# Altium footprint library Connectors - Modular.PcbLib: 2 footprints
Each footprint in its own frame and in the unit in brackets; x right, y up, seen from the top. Pads: shape width x height; smd on the part's side, far side on the other; paste and mask are expansions set on the pad; w line width, h text height; cw(c..) or ccw(c..) is an arc to the next point about the centre after c.
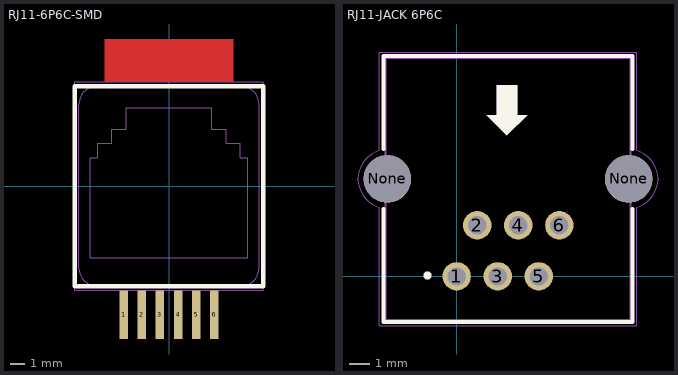
[diagram p0: the footprints below, top view; thin cyan lines are the x and y axes]

## RJ11-6P6C-SMD [mm]
height 12.8
pads (6):
  rrect10% 0.6x3.4 smd mask+0.07: 1(-3.175,-9) 2(-1.905,-9) 3(-0.635,-9) 4(0.635,-9) 5(1.905,-9) 6(3.175,-9)
Top Layer:
  region: -4.5,10.3 -4.5,7.3 4.5,7.3 4.5,10.3
Top Overlay:
  lines w0.3: -6.6,-7 6.6,-7 6.6,7 -6.6,7 -6.6,-7
Top HCB:
  lines w0.05: -6.6,-7.3 6.6,-7.3 6.6,7.3 -6.6,7.3 -6.6,-7.3 ; -6.3,-5.73 ccw(c-5.03,-5.73) -5.03,-7 5.03,-7 ccw(c5.03,-5.73) 6.3,-5.73 6.3,5.73 ccw(c5.03,5.73) 5.03,7 -5.03,7 ccw(c-5.03,5.73) -6.3,5.73 -6.3,0 -6.3,-5.73 ; -5.5,-5 -5.5,2 -5,2 -5,3 -4,3 -4,4 -3,4 -3,5.5 3,5.5 3,4 4,4 4,3 5,3 5,2 5.5,2 5.5,-5 -5.5,-5

## RJ11-JACK 6P6C [mm] "CONN MOD JACK 6P6C R/A UNSHLD"
height 14.5
pads (8):
  round 1.408 hole 0.9: 1(0,0) 2(1.02,2.54) 3(2.04,0) 4(3.06,2.54) 5(4.08,0) 6(5.1,2.54)
  round 2.36 hole 2.36 unplated: None(-3.45,4.84) None(8.55,4.84)
Top Overlay:
  circle w0.2: c-1.45,0.04 r0.1
  region: 2,9.5 3,9.5 3,8 3.5,8 2.5,7 1.5,8 2,8
  lines w0.2: -3.65,3.34 -3.65,-2.26 8.75,-2.26 8.75,3.34 ; -3.65,6.34 -3.65,10.94 8.75,10.94 8.75,6.34
Top HCB:
  region: 2,9.5 3,9.5 3,8 3.5,8 2.5,7 1.5,8 2,8
  lines w0.05: 8.95,-2.46 8.95,3.44 ; 8.95,-2.46 8.95,3.44 ; 8.95,-2.46 -3.85,-2.46 -3.85,3.44 cw(c-3.45,4.84) -3.85,6.24 -3.85,11.14 8.95,11.14 8.95,6.24 cw(c8.55,4.84) 8.95,3.44
  text ".Designator" at -0.98,4.661 h1.5
Mechanical 4:
  lines w0.1: -3.55,-2.16 -3.55,10.84 ; -3.55,-2.16 8.65,-2.16 ; -3.55,-2.16 -3.55,10.84 ; -3.55,-2.16 8.65,-2.16 ; -3.55,10.84 8.65,10.84 ; -3.55,10.84 8.65,10.84 ; 8.65,-2.16 8.65,10.84 ; 8.65,-2.16 8.65,10.84
3D body "43754.stp": height 14.75, standoff -3.05, extent -4.84,-2.18 9.928,10.82